# EAGLE library part ESP32 (library micromouse)
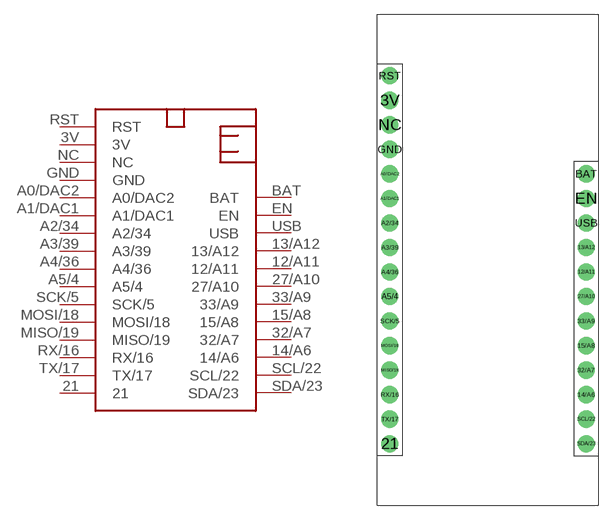
[diagram p1: symbol with the pads of ESP32; footprint ESP32]

Designator prefix ESP32

## ESP32  [ESP32]
3V  3V
12/A11  12/A11
13/A12  13/A12
14/A6  14/A6
15/A8  15/A8
21  21
27/A10  27/A10
32/A7  32/A7
33/A9  33/A9
A0/DAC2  A0/DAC2
A1/DAC1  A1/DAC1
A2/34  A2/34
A3/39  A3/39
A4/36  A4/36
A5/4  A5/4
BAT  BAT
EN  EN
GND  GND
MISO/19  MISO/19
MOSI/18  MOSI/18
NC  NC
RST  RST
RX/16  RX/16
SCK/5  SCK/5
SCL/22  SCL/22
SDA/23  SDA/23
TX/17  TX/17
USB  USB

## Footprint ESP32 (pad centres in mm)
drill 1.016 pad 1.778: 3V 1.27,41.91; 12/A11 21.59,24.13; 13/A12 21.59,26.67; 14/A6 21.59,11.43; 15/A8 21.59,16.51; 21 1.27,6.35; 27/A10 21.59,21.59; 32/A7 21.59,13.97; 33/A9 21.59,19.05; A0/DAC2 1.27,34.29; A1/DAC1 1.27,31.75; A2/34 1.27,29.21; A3/39 1.27,26.67; A4/36 1.27,24.13; A5/4 1.27,21.59; BAT 21.59,34.29; EN 21.59,31.75; GND 1.27,36.83; MISO/19 1.27,13.97; MOSI/18 1.27,16.51; NC 1.27,39.37; RST 1.27,44.45; RX/16 1.27,11.43; SCK/5 1.27,19.05; SCL/22 21.59,8.89; SDA/23 21.59,6.35; TX/17 1.27,8.89; USB 21.59,29.21